# EAGLE library part CBTL02043A (library nxp_60_1_1)
CBTL02043A/B is a 2 differential channel, 2-to-1 multiplexer/demultiplexer switch for PCI Express Generation 3 (Gen3), or other high-speed serial interface applications. The CBTL02043A/B can switch two differential signals to one of two locations. Using a unique design technique, NXP has minimized the impedance of the switch such that the attenuation observed through the switch is negligible, and also minimized the channel-to-channel skew as well as channel-to-channel crosstalk, as required by the high-speed serial interface. CBTL02043A/B allows expansion of existing high speed ports for extremely low power. AAL Eindhoven MK
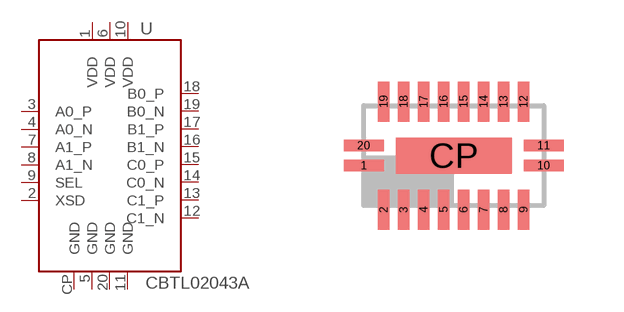
[diagram p30: symbol with the pads of SOT764; footprint SOT764]

Designator prefix U

## CBTL02043ABQ  [SOT764]
1  VDD
2  XSD  in
3  A0_P
4  A0_N
5  GND
6  VDD
7  A1_P
8  A1_N
9  SEL  in
10  VDD
11  GND
12  C1_N
13  C1_P
14  C0_N
15  C0_P
16  B1_N
17  B1_P
18  B0_P
19  B0_N
20  GND
CP  GND

## Footprint SOT764 (pad centres in mm)
SOT764 DHVQFN20: plastic dual in-line compatible thermal enhanced very thin quad flat package; no leads; 20 terminals; body 2.5 x 4.5 x 0.85 mm JEDEC: MO-241 IEC: ---
smd 1 x 0.29: 1 -2.25,-0.25; 10 2.25,-0.25; 11 2.25,0.25; 20 -2.25,0.25
smd 0.29 x 1: 2 -1.75,-1.35; 3 -1.25,-1.35; 4 -0.75,-1.35; 5 -0.25,-1.35; 6 0.25,-1.35; 7 0.75,-1.35; 8 1.25,-1.35; 9 1.75,-1.35; 12 1.75,1.35; 13 1.25,1.35; 14 0.75,1.35; 15 0.25,1.35; 16 -0.25,1.35; 17 -0.75,1.35; 18 -1.25,1.35; 19 -1.75,1.35
smd 2.9 x 0.9: CP 0,0